# EAGLE library part WE-LAN_749020111A (library Wurth_Elektronik_EMC_COMPONENTS_rev16c)
WE-LAN LAN Transformer 10/100 Base T - Compliant with IEEE 802.3, IEEE 802.3af and IEEE 802.3at standards - SMT -- Ethernet -- Power over Ethernet -- 1 Gigabit Ethernet -- Compliant with most IC's for ethernet applications like Intel, AMD, Globespan and Realtek -- Hub, Router, Switch <http://katalog.we-online.de/media/images/v2/Family_WE-LAN.jpg> Details see: http://katalog.we-online.de/en/pbs/WE-LAN/7490100111A 2016 (C) Würth Elektronik
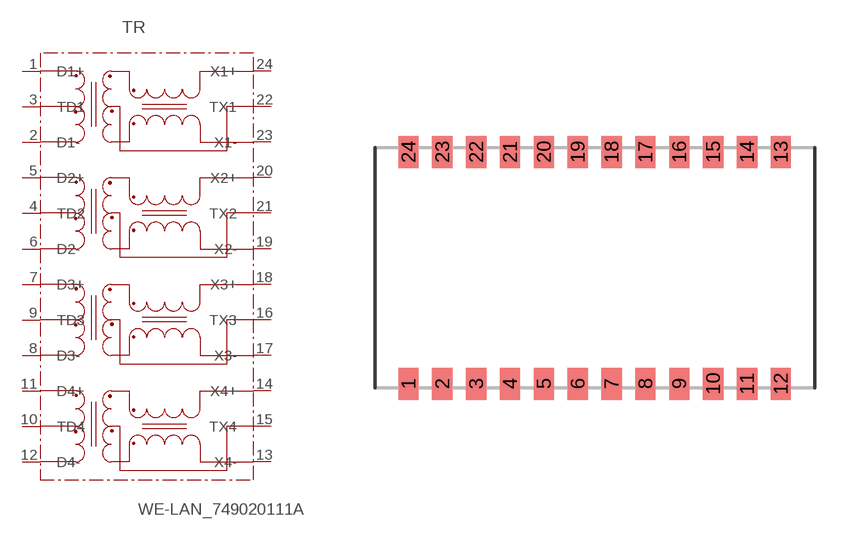
[diagram p228: symbol with the pads of 749020111A; footprint 749020111A]

Designator prefix TR

## WE-LAN_749020111A  [749020111A]
1  D1+
2  D1-
3  TD1
4  TD2
5  D2+
6  D2-
7  D3+
8  D3-
9  TD3
10  TD4
11  D4+
12  D4-
13  X4-
14  X4+
15  TX4
16  TX3
17  X3-
18  X3+
19  X2-
20  X2+
21  TX2
22  TX1
23  X1-
24  X1+

## Footprint 749020111A (pad centres in mm)
smd 0.76 x 1.2: 1 -6.985,-4.35; 2 -5.715,-4.35; 3 -4.445,-4.35; 4 -3.175,-4.35; 5 -1.905,-4.35; 6 -0.635,-4.35; 7 0.635,-4.35; 8 1.905,-4.35; 9 3.175,-4.35; 10 4.445,-4.35; 11 5.715,-4.35; 12 6.985,-4.35; 13 6.985,4.35; 14 5.715,4.35; 15 4.445,4.35; 16 3.175,4.35; 17 1.905,4.35; 18 0.635,4.35; 19 -0.635,4.35; 20 -1.905,4.35; 21 -3.175,4.35; 22 -4.445,4.35; 23 -5.715,4.35; 24 -6.985,4.35